# Altium footprint library Single_Pad_Pcb.PcbLib: 8 footprints
Each footprint in its own frame and in the unit in brackets; x right, y up, seen from the top. Pads: shape width x height; smd on the part's side, far side on the other; paste and mask are expansions set on the pad; w line width, h text height; cw(c..) or ccw(c..) is an arc to the next point about the centre after c.
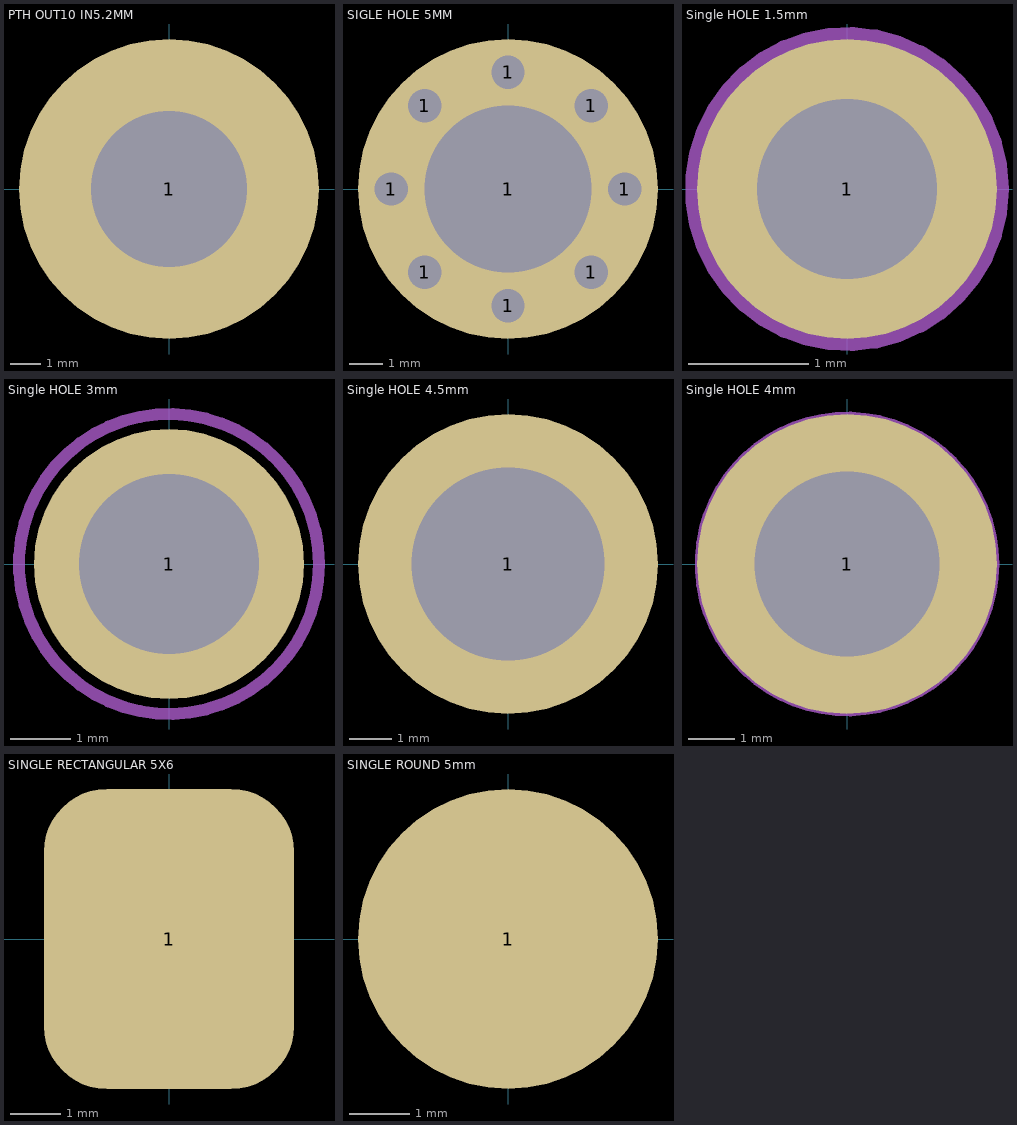
[diagram p0: the footprints below, top view; thin cyan lines are the x and y axes]

## PTH OUT10 IN5.2MM [mm]
pads (1):
  round 10 hole 5.2: 1(0,0)

## SIGLE HOLE 5MM [mm]
pads (9):
  round 1.5 hole 1: 1(-3.5,0) 1(-2.5,-2.5) 1(-2.5,2.5) 1(0,-3.5) 1(0,3.5) 1(2.5,-2.5) 1(2.5,2.5) 1(3.5,0)
  round 9 hole 5 paste-2539.97 mask+0.1: 1(0,0)
Mechanical 13:
  circle w0.2: c0,0 r3.2
  text "'.Designator'" at -3.246,-6.746 h1.5

## Single HOLE 1.5mm [mm]
pads (1):
  round 2.5 hole 1.5 paste-2539.97 mask+0.1: 1(0,0)
Mechanical 13:
  circle w0.2: c0,0 r1.25
  text "'.designator'" at -2.341,0.188 h1

## Single HOLE 3mm [mm]
pads (1):
  round 4.5 hole 3 paste-2539.97 mask+0.1: 1(0,0)
Mechanical 13:
  circle w0.2: c0,0 r2.5
  text "'.designator'" at -1.9,-1.512 h1

## Single HOLE 4.5mm [mm]
pads (1):
  round 7 hole 4.5 paste-2539.97 mask+0.1: 1(0,0)
Mechanical 13:
  circle w0.2: c0,0 r3.2
  text "'.designator'" at -1.9,-1.512 h1

## Single HOLE 4mm [mm]
pads (1):
  round 6.5 hole 4 paste-2539.97 mask+0.1: 1(0,0)
Mechanical 13:
  circle w0.2: c0,0 r3.2
  text "'.designator'" at -1.9,-1.512 h1

## SINGLE RECTANGULAR 5X6 [mm]
pads (1):
  rrect50% 5x6 smd: 1(0,0)

## SINGLE ROUND 5mm [mm]
pads (1):
  round 5 smd: 1(0,0)